# Altium schematic symbol library CMJ2000_Schematic.SchLib: 1 symbol
Pins are listed as number, name and electrical type; pins without a type are passive.

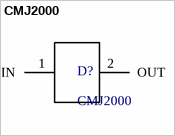
[diagram p0: symbol CMJ2000]

## CMJ2000
designator D?
DIODE CUR REG 100V 2.32MA 500MW; ComponentLink1Description: New link; ComponentLink1URL: *
footprint CMJ2000_Footprint (Constant Current Regulator)
pins: 1 IN, 2 OUT